# Altium footprint library HEV2aN-P.PcbLib: 1 footprints
Each footprint in its own frame and in the unit in brackets; x right, y up, seen from the top. Pads: shape width x height; smd on the part's side, far side on the other; paste and mask are expansions set on the pad; w line width, h text height; cw(c..) or ccw(c..) is an arc to the next point about the centre after c.
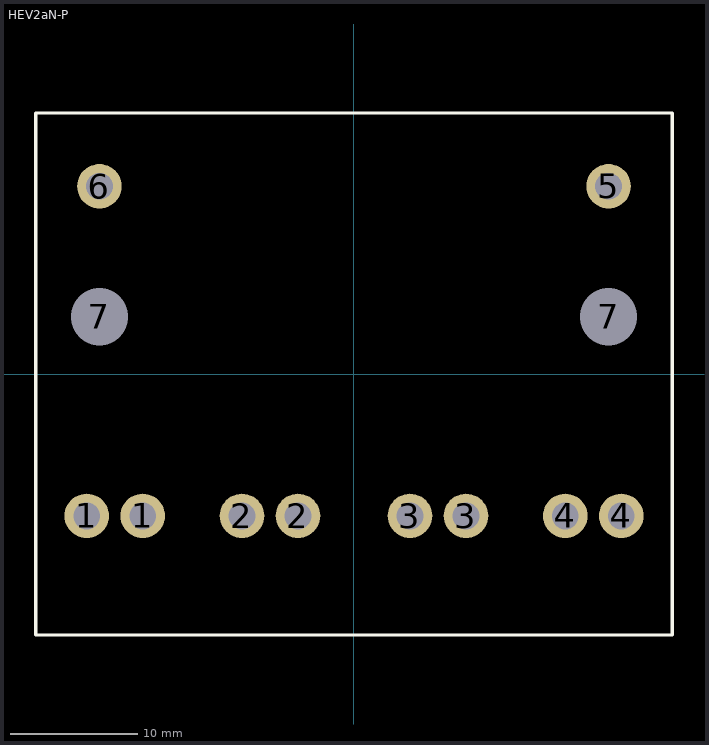
[diagram p0: the footprint, top view; thin cyan lines are the x and y axes]

## HEV2aN-P [mm]
pads (12):
  round 3.5 hole 2.1: 1(-21,-11.15) 1(-16.6,-11.15) 2(-8.8,-11.15) 2(-4.4,-11.15) 3(4.4,-11.15) 3(8.8,-11.15) 4(16.6,-11.15) 4(21,-11.15) 5(20,14.75) 6(-20,14.75)
  round 3.5 hole 4.5: 7(-20,4.5) 7(20,4.5)
Top Overlay:
  lines w0.254: -25,-20.5 25,-20.5 25,20.5 -25,20.5 -25,-20.5
Mechanical 9:
  text "'.Designator'" at -25,-20.5 h3
3D body: height 39.4, standoff 0, extent -25,-20.5 25,20.5